# EAGLE library part HY28B (library hy28b)
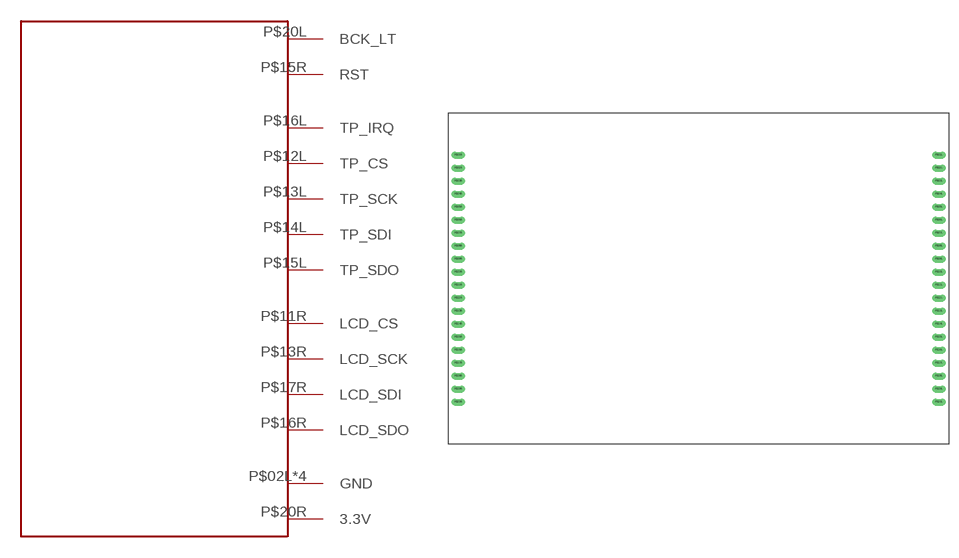
[diagram p0: symbol with the pads of HY28B; footprint HY28B]

Designator prefix -

## HY28BSTD  [HY28B]
P$02L  GND
P$02R  GND
P$11R  LCD_CS
P$12L  TP_CS
P$13L  TP_SCK
P$13R  LCD_SCK
P$14L  TP_SDI
P$15L  TP_SDO
P$15R  RST
P$16L  TP_IRQ
P$16R  LCD_SDO
P$17R  LCD_SDI
P$19L  GND
P$19R  GND
P$20L  BCK_LT
P$20R  3.3V

## Footprint HY28B (pad centres in mm)
HY28B TFT touch display for use in SPI mode
drill 0.6 long: P$01L 74,38; P$01R 0,38; P$02L 74,36; P$02R 0,36; P$03L 74,34; P$03R 0,34; P$04L 74,32; P$04R 0,32; P$05L 74,30; P$05R 0,30; P$06L 74,28; P$06R 0,28; P$07L 74,26; P$07R 0,26; P$08L 74,24; P$08R 0,24; P$09L 74,22; P$09R 0,22; P$10L 74,20; P$10R 0,20; P$11L 74,18; P$11R 0,18; P$12L 74,16; P$12R 0,16; P$13L 74,14; P$13R 0,14; P$14L 74,12; P$14R 0,12; P$15L 74,10; P$15R 0,10; P$16L 74,8; P$16R 0,8; P$17L 74,6; P$17R 0,6; P$18L 74,4; P$18R 0,4; P$19L 74,2; P$19R 0,2; P$20L 74,0; P$20R 0,0